# Altium footprint library CAPC1005X61N.PcbLib: 1 footprints
Each footprint in its own frame and in the unit in brackets; x right, y up, seen from the top. Pads: shape width x height; smd on the part's side, far side on the other; paste and mask are expansions set on the pad; w line width, h text height; cw(c..) or ccw(c..) is an arc to the next point about the centre after c.
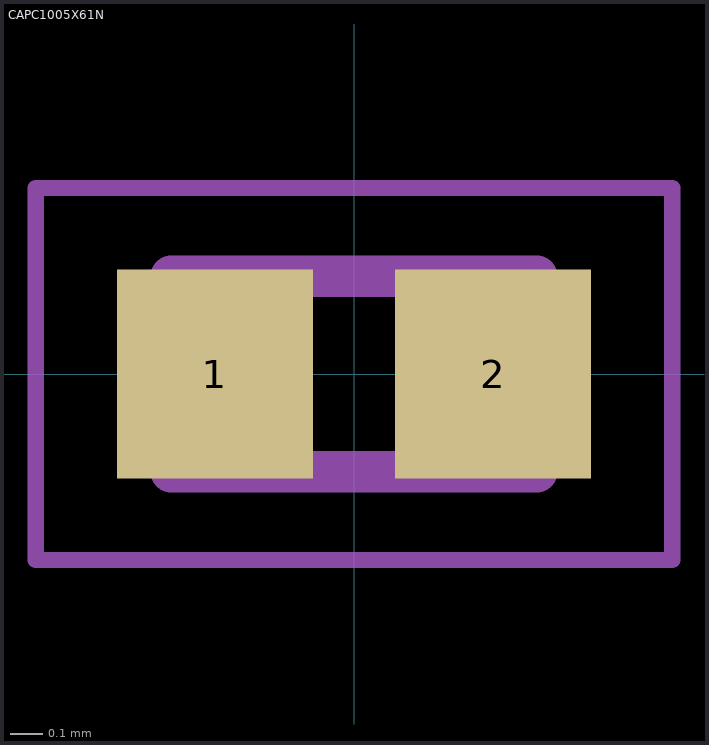
[diagram p0: the footprint, top view; thin cyan lines are the x and y axes]

## CAPC1005X61N [mm]
pads (2):
  rect 0.6x0.64 smd paste+0 mask+0.102: 1(-0.426,0) 2(0.426,0)
Assembly Top:
  lines w0.127: -0.56,-0.3 0.56,-0.3 0.56,0.3 -0.56,0.3 -0.56,-0.3
Courtyard Top:
  lines w0.05: -0.975,-0.57 0.975,-0.57 0.975,0.57 -0.975,0.57 -0.975,-0.57
3D body "step_temp.STEP": height 0.61, standoff 0, extent -0.51,-0.255 0.51,0.255